# EAGLE library part STM8L151X4/6 (library Namenlos)
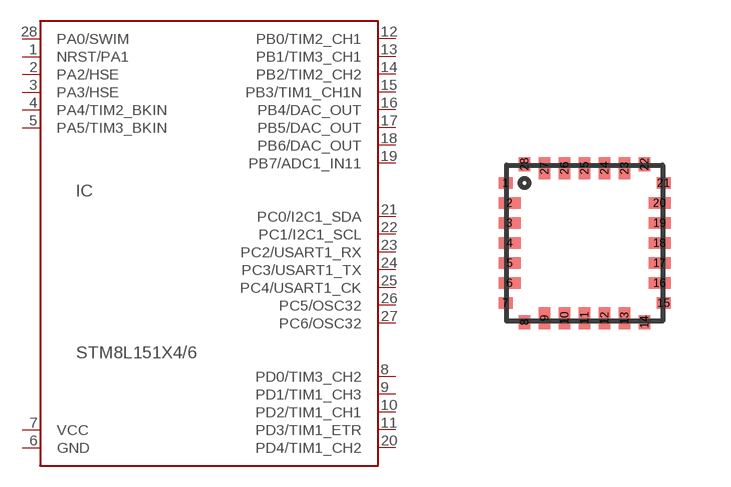
[diagram p24: symbol with the pads of QFN28; footprint QFN28]

Designator prefix IC

## STM8L151X4/6G6U6  [QFN28]
1  NRST/PA1
2  PA2/HSE
3  PA3/HSE
4  PA4/TIM2_BKIN
5  PA5/TIM3_BKIN
6  GND  pwr
7  VCC  pwr
8  PD0/TIM3_CH2
9  PD1/TIM1_CH3
10  PD2/TIM1_CH1
11  PD3/TIM1_ETR
12  PB0/TIM2_CH1
13  PB1/TIM3_CH1
14  PB2/TIM2_CH2
15  PB3/TIM1_CH1N
16  PB4/DAC_OUT
17  PB5/DAC_OUT
18  PB6/DAC_OUT
19  PB7/ADC1_IN11
20  PD4/TIM1_CH2
21  PC0/I2C1_SDA
22  PC1/I2C1_SCL
23  PC2/USART1_RX
24  PC3/USART1_TX
25  PC4/USART1_CK
26  PC5/OSC32
27  PC6/OSC32
28  PA0/SWIM

## Footprint QFN28 (pad centres in mm)
smd 0.35 x 0.29: 1 -1.975,1.5; 7 -1.975,-1.5; 15 1.975,-1.5; 21 1.975,1.5
smd 0.55 x 0.29: 2 -1.875,1; 3 -1.875,0.5; 4 -1.875,0; 5 -1.875,-0.5; 6 -1.875,-1; 16 1.875,-1; 17 1.875,-0.5; 18 1.875,0; 19 1.875,0.5; 20 1.875,1
smd 0.29 x 0.35: 8 -1.5,-1.975; 14 1.5,-1.975; 22 1.5,1.975; 28 -1.5,1.975
smd 0.29 x 0.55: 9 -1,-1.875; 10 -0.5,-1.875; 11 0,-1.875; 12 0.5,-1.875; 13 1,-1.875; 23 1,1.875; 24 0.5,1.875; 25 0,1.875; 26 -0.5,1.875; 27 -1,1.875